# Altium footprint library Inductor_SMD.PcbLib: 37 footprints (part 1 of 3)
Each footprint in its own frame and in the unit in brackets; x right, y up, seen from the top. Pads: shape width x height; smd on the part's side, far side on the other; paste and mask are expansions set on the pad; w line width, h text height; cw(c..) or ccw(c..) is an arc to the next point about the centre after c.
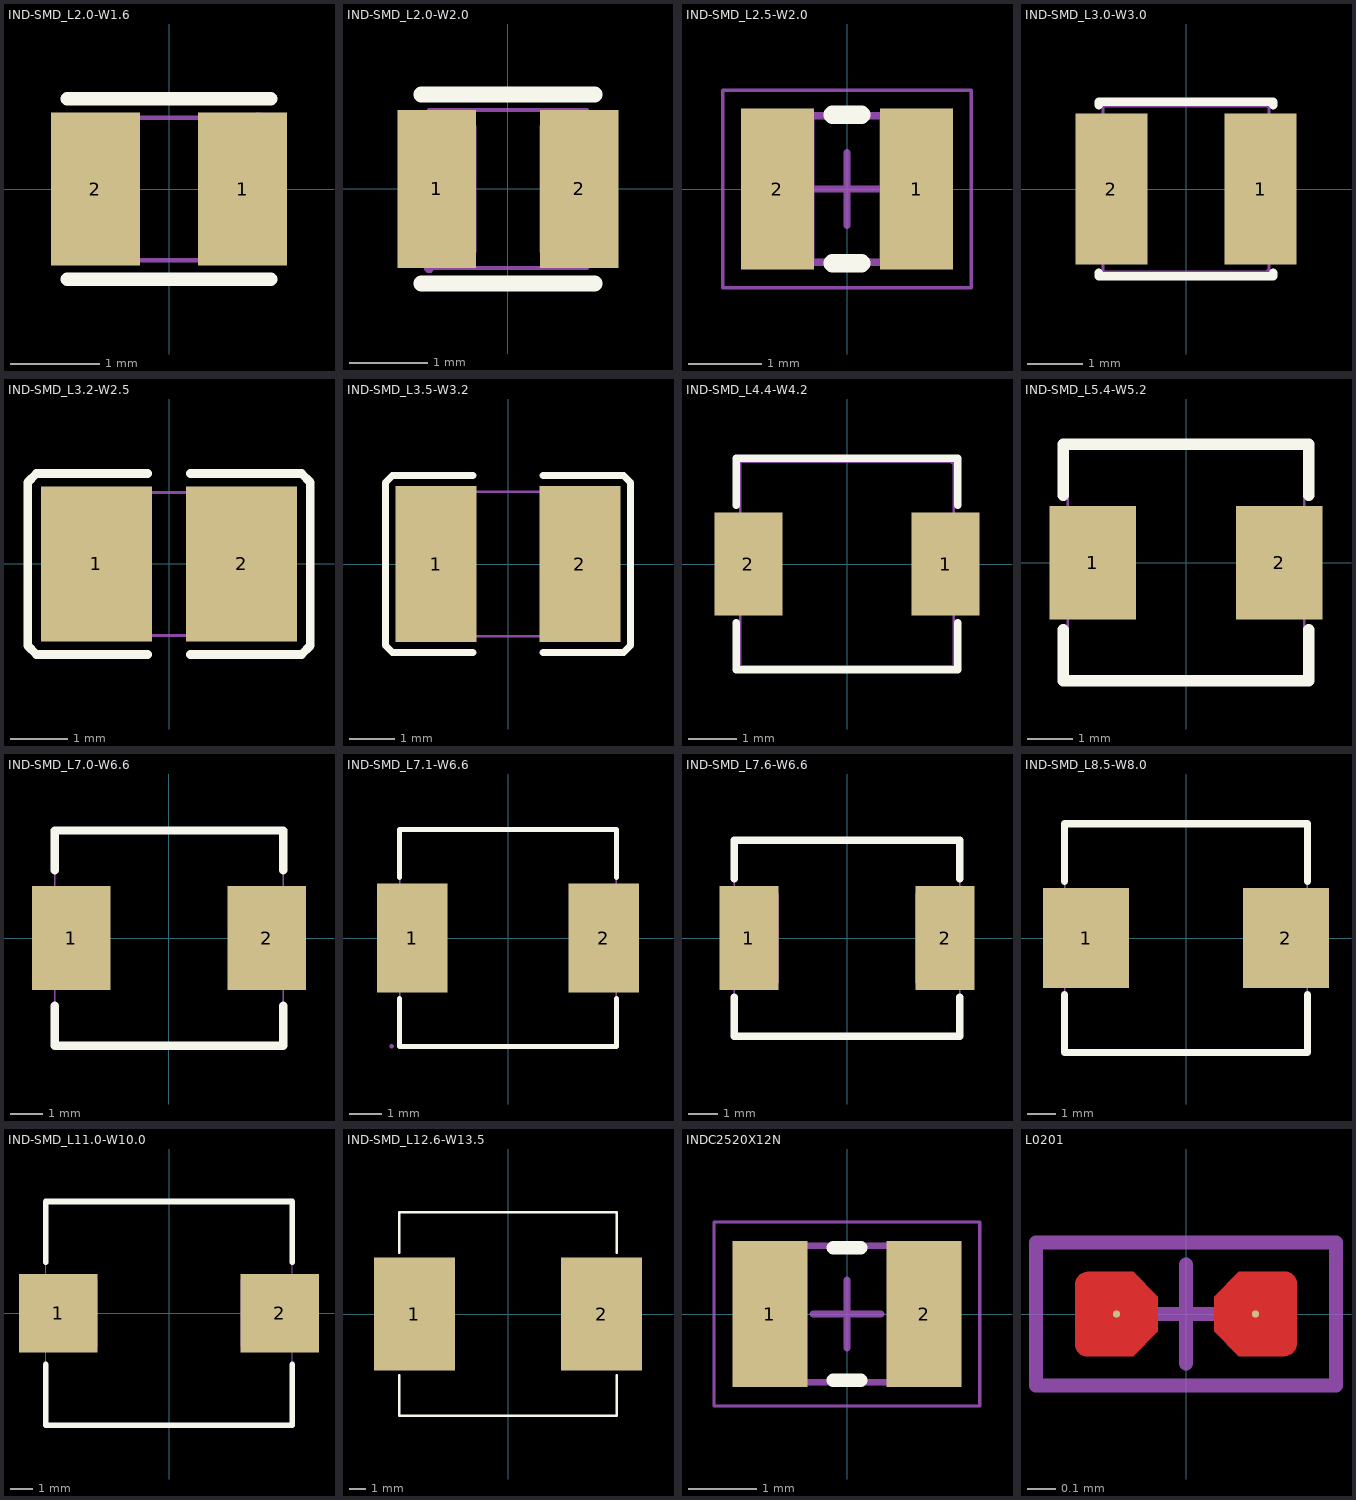
[diagram p0: the footprints below, top view; thin cyan lines are the x and y axes]

## IND-SMD_L2.0-W1.6 [mm]
pads (2):
  rect 1x1.72 smd paste+0 mask+0.051: 1(0.828,0) 2(-0.828,0)
Top Overlay:
  lines w0.152: -1.143,-1.016 1.143,-1.016 ; -1.143,1.016 1.143,1.016
Mechanical 15:
  region: -1,0.8 -0.4,0.8 -0.4,-0.8 -1,-0.8
  region: 0.4,0.8 1,0.8 1,-0.8 0.4,-0.8
  region: 1.06,0.8 1.06,0.825 1.025,0.86 0.975,0.86 0.94,0.825 0.94,0.8 0.94,0.775 0.975,0.74 1.025,0.74 1.06,0.775 1.06,0.8
  lines w0.051: -1,-0.8 1,-0.8 1,0.8 -1,0.8 -1,-0.8
3D body "L1.stp": height 1.12, standoff 0, extent -1.01,-0.8 1.01,0.8

## IND-SMD_L2.0-W2.0 [mm]
pads (2):
  rect 1.001x1.999 smd mask+0.051: 1(-0.904,0) 2(0.904,0)
Top Overlay:
  lines w0.201: -1.1,-1.199 1.1,-1.199 ; -1.1,1.199 1.1,1.199
Mechanical 15:
  region: -0.94,-1.001 -0.94,-0.976 -0.976,-0.94 -1.026,-0.94 -1.062,-0.976 -1.062,-1.001 -1.062,-1.026 -1.026,-1.062 -0.976,-1.062 -0.94,-1.026 -0.94,-1.001
  region: 0.401,0.8 1.001,0.8 1.001,-0.8 0.401,-0.8
  region: -1.001,0.8 -0.401,0.8 -0.401,-0.8 -1.001,-0.8
  lines w0.051: -1.001,-1.001 1.001,-1.001 1.001,1.001 -1.001,1.001 -1.001,-1.001
3D body: height 1, standoff 0, extent -1,-1 1,1

## IND-SMD_L2.5-W2.0 [mm]
pads (2):
  rect 1x2.2 smd: 1(0.95,0) 2(-0.95,0)
Top Overlay:
  lines w0.254: -0.197,-1.016 0.197,-1.016 ; -0.197,1.016 0.197,1.016
Mechanical 13:
  lines w0.1: -1.25,-1 -1.25,1 1.25,1 1.25,-1 -1.25,-1
Mechanical 15:
  region: -1.16,-0.97 -1.161,-0.946 -1.196,-0.912 -1.244,-0.912 -1.279,-0.946 -1.28,-0.97 -1.279,-0.994 -1.244,-1.028 -1.196,-1.028 -1.161,-0.994 -1.16,-0.97
  region: -1.25,1 -0.45,1 -0.45,-1 -1.25,-1
  region: 0.45,1 1.25,1 1.25,-1 0.45,-1
  lines w0.05: -1.7,-1.35 1.7,-1.35 1.7,1.35 -1.7,1.35 -1.7,-1.35
  lines w0.051: -1.25,-1 -1.25,1 1.25,1 1.25,-1 -1.25,-1
  lines w0.1: -0.5,0 0.5,0 ; 0,-0.5 0,0.5
3D body "INDC2520X12N.step": height 1.2, standoff 0, extent -1.25,-1 1.25,1

## IND-SMD_L3.0-W3.0 [mm]
pads (2):
  rect 1.3x2.72 smd: 1(1.35,0) 2(-1.35,0)
Top Overlay:
  lines w0.152: -1.576,-1.512 -1.576,-1.576 1.576,-1.576 1.576,-1.512 ; -1.576,1.512 -1.576,1.576 1.576,1.576 1.576,1.512
Mechanical 15:
  region: 1.56,-1.5 1.56,-1.476 1.525,-1.441 1.475,-1.441 1.44,-1.475 1.44,-1.5 1.44,-1.525 1.475,-1.559 1.524,-1.559 1.559,-1.525 1.56,-1.5
  region: 0.75,1.25 1.5,1.25 1.5,-1.25 0.75,-1.25
  region: -0.75,-1.25 -1.5,-1.25 -1.5,1.25 -0.75,1.25
  lines w0.051: -1.5,-1.5 -1.5,1.5 1.5,1.5 1.5,-1.5 -1.5,-1.5
3D body "User Library-nr3015.STEP": height 1.45, standoff -0.04, extent -1.5,-1.5 1.5,1.5

## IND-SMD_L3.2-W2.5 [mm]
pads (2):
  rect 1.935x2.7 smd: 1(-1.267,0) 2(1.267,0)
Top Overlay:
  lines w0.152: -0.376,-1.579 -2.311,-1.579 -2.464,-1.426 -2.464,1.426 -2.311,1.579 -0.376,1.579 ; 0.376,-1.579 2.311,-1.579 2.464,-1.426 2.464,1.426 2.311,1.579 0.376,1.579
Mechanical 15:
  region: 0.5,1.25 1.6,1.25 1.6,-1.25 0.5,-1.25
  region: -1.6,1.25 -0.5,1.25 -0.5,-1.25 -1.6,-1.25
  region: -1.54,-1.25 -1.54,-1.225 -1.575,-1.19 -1.625,-1.19 -1.66,-1.225 -1.66,-1.25 -1.66,-1.275 -1.625,-1.31 -1.575,-1.31 -1.54,-1.275 -1.54,-1.25
  lines w0.051: -1.6,-1.25 -1.6,1.25 1.6,1.25 1.6,-1.25 -1.6,-1.25
3D body "1.step": height 1.01, standoff 0, extent -1.61,-1.26 1.61,1.26

## IND-SMD_L3.5-W3.2 [mm]
pads (2):
  rect 1.785x3.456 smd: 1(-1.593,0) 2(1.593,0)
Top Overlay:
  lines w0.152: -0.776,-1.957 -2.561,-1.957 -2.714,-1.804 -2.714,1.804 -2.561,1.957 -0.776,1.957 ; 0.776,-1.957 2.561,-1.957 2.714,-1.804 2.714,1.804 2.561,1.957 0.776,1.957
Mechanical 15:
  region: -1.69,-1.6 -1.691,-1.576 -1.726,-1.543 -1.774,-1.543 -1.809,-1.576 -1.81,-1.6 -1.809,-1.624 -1.774,-1.657 -1.726,-1.657 -1.691,-1.624 -1.69,-1.6
  region: -1.75,-1.6 -1.05,-1.6 -1.05,1.6 -1.75,1.6
  region: 1.05,-1.6 1.75,-1.6 1.75,1.6 1.05,1.6
  lines w0.051: -1.75,-1.6 1.75,-1.6 1.75,1.6 -1.75,1.6 -1.75,-1.6
3D body: height 2, standoff 0, extent -1.75,-1.6 1.75,1.6

## IND-SMD_L4.4-W4.2 [mm]
pads (2):
  rect 1.4x2.12 smd: 1(2.028,0) 2(-2.028,0)
Top Overlay:
  lines w0.152: -2.276,-1.212 -2.276,-2.176 2.276,-2.176 2.276,-1.212 ; -2.276,1.212 -2.276,2.176 2.276,2.176 2.276,1.212
Mechanical 15:
  region: -2.2,1 -1.4,1 -1.4,-1 -2.2,-1
  region: 1.4,1 2.2,1 2.2,-1 1.4,-1
  region: 2.26,2.1 2.26,2.125 2.225,2.16 2.175,2.16 2.14,2.125 2.14,2.1 2.14,2.075 2.175,2.04 2.225,2.04 2.26,2.075 2.26,2.1
  lines w0.051: -2.2,-2.1 2.2,-2.1 2.2,2.1 -2.2,2.1 -2.2,-2.1
3D body "U1^3D_PCB1_2023-08-04(2)_3D_PCB1_2023-08-04.STEP": height 2.1, standoff 0, extent -2.2,-2.1 2.2,2.1

## IND-SMD_L5.4-W5.2 [mm]
pads (2):
  rect 1.9x2.5 smd: 1(-2.05,0) 2(2.05,0)
Top Overlay:
  lines w0.254: -2.7,-1.481 -2.7,-2.6 2.7,-2.6 2.7,-1.481 ; -2.7,1.481 -2.7,2.6 2.7,2.6 2.7,1.481
Mechanical 15:
  region: 2.7,-1.1 1.5,-1.1 1.5,1.1 2.7,1.1
  region: -2.7,1.1 -1.5,1.1 -1.5,-1.1 -2.7,-1.1
  region: -2.64,-2.6 -2.64,-2.575 -2.675,-2.54 -2.725,-2.54 -2.76,-2.575 -2.76,-2.6 -2.76,-2.625 -2.725,-2.66 -2.675,-2.66 -2.64,-2.625 -2.64,-2.6
  lines w0.051: -2.6,-2.6 -2.6,2.6 2.6,2.6 2.6,-2.6 -2.6,-2.6
3D body "IND-SMD_L5.4-W5.2_FXL0530.stp": height 2.81, standoff 0, extent -2.7,-2.6 2.7,2.6

## IND-SMD_L7.0-W6.6 [mm]
pads (2):
  rect 2.4x3.2 smd paste+0 mask+0.051: 1(-3,0) 2(3,0)
Top Overlay:
  lines w0.254: -3.5,-2.081 -3.5,-3.3 -3.49,-3.3 3.5,-3.3 3.5,-2.081 ; -3.5,2.081 -3.5,3.3 3.48,3.3 3.5,3.28 ; 3.5,2.081 3.5,3.3
Mechanical 15:
  region: -3.44,-3.3 -3.44,-3.275 -3.475,-3.24 -3.525,-3.24 -3.56,-3.275 -3.56,-3.3 -3.56,-3.325 -3.525,-3.36 -3.475,-3.36 -3.44,-3.325 -3.44,-3.3
  region: 1.9,1.5 3.5,1.5 3.5,-1.5 1.9,-1.5
  region: -1.9,-1.5 -3.5,-1.5 -3.5,1.5 -1.9,1.5
  lines w0.051: -3.5,-3.3 -3.5,3.3 3.5,3.3 3.5,-3.3 -3.5,-3.3
3D body "U1.stp": height 3.1, standoff 0, extent -3.5,-3.3 3.5,3.3

## IND-SMD_L7.1-W6.6 [mm]
pads (2):
  rect 2.15x3.32 smd mask+0.051: 1(-2.913,0) 2(2.913,0)
Top Overlay:
  lines w0.152: -3.302,-1.84 -3.302,-3.302 3.302,-3.302 3.302,-1.84 ; -3.302,1.84 -3.302,3.302 3.302,3.302 3.302,1.84
Mechanical 15:
  region: -3.49,-3.3 -3.49,-3.275 -3.525,-3.24 -3.575,-3.24 -3.61,-3.275 -3.61,-3.3 -3.61,-3.325 -3.575,-3.36 -3.525,-3.36 -3.49,-3.325 -3.49,-3.3
  region: -3.55,1.5 -1.95,1.5 -1.95,-1.5 -3.55,-1.5
  region: 1.95,1.5 3.55,1.5 3.55,-1.5 1.95,-1.5
  lines w0.051: -3.3,-3.3 3.3,-3.3 3.3,3.3 -3.3,3.3 -3.3,-3.3
3D body "L1.stp": height 3.1, standoff 0, extent -3.5,-3.35 3.5,3.35

## IND-SMD_L7.6-W6.6 [mm]
pads (2):
  rect 1.999x3.5 smd mask+0.051: 1(-3.299,0) 2(3.299,0)
Top Overlay:
  lines w0.254: -3.8,-1.999 -3.8,-3.299 3.8,-3.299 3.8,-1.999 ; -3.8,1.999 -3.8,3.299 3.8,3.299 3.8,1.999
Mechanical 15:
  region: 2.301,1.501 3.8,1.501 3.8,-1.501 2.301,-1.501
  region: -3.8,1.501 -2.301,1.501 -2.301,-1.501 -3.8,-1.501
  region: -3.739,-3.299 -3.739,-3.274 -3.775,-3.238 -3.825,-3.238 -3.861,-3.274 -3.861,-3.299 -3.861,-3.325 -3.825,-3.36 -3.775,-3.36 -3.739,-3.325 -3.739,-3.299
  lines w0.051: -3.8,-3.299 3.8,-3.299 3.8,3.299 -3.8,3.299 -3.8,-3.299
3D body "L1.stp": height 5.01, standoff 0, extent -3.799,-3.3 3.799,3.299

## IND-SMD_L8.5-W8.0 [mm]
pads (2):
  rect 3x3.5 smd: 1(-3.5,0) 2(3.5,0)
Top Overlay:
  lines w0.254: -4.25,-1.981 -4.25,-4 4.25,-4 4.25,-1.981 ; -4.25,1.981 -4.25,4 4.25,4 4.25,1.981
Mechanical 15:
  region: -4.25,1.5 -2.45,1.5 -2.45,-1.5 -4.25,-1.5
  region: 2.45,1.5 4.25,1.5 4.25,-1.5 2.45,-1.5
  region: -4.19,-4 -4.19,-4.025 -4.225,-4.06 -4.275,-4.06 -4.31,-4.025 -4.31,-4 -4.31,-3.975 -4.275,-3.94 -4.225,-3.94 -4.19,-3.975 -4.19,-4
  lines w0.051: -4.25,-4 4.25,-4 4.25,4 -4.25,4 -4.25,-4
3D body "未命名-EasyEDA PCB Model~nQ1nIND-SMD_L8.5-W8.0_PCC-M0854M~IND-SMD_L8.5-W8.0_PCC-M0854M~nQ1n003.step": height 4, standoff 0, extent -4.25,-4 4.25,4

## IND-SMD_L11.0-W10.0 [mm]
pads (2):
  rect 3.5x3.5 smd: 1(-4.95,0) 2(4.95,0)
Top Overlay:
  lines w0.254: -5.5,-2.281 -5.5,-5 5.5,-5 5.5,-2.281 ; -5.5,2.281 -5.5,5 5.5,5 5.5,2.281
Mechanical 15:
  region: 3.2,-1.5 3.2,1.5 5.5,1.5 5.5,-1.5
  region: -3.2,1.5 -3.2,-1.5 -5.5,-1.5 -5.5,1.5
  region: -5.44,-5 -5.441,-4.976 -5.476,-4.942 -5.524,-4.942 -5.559,-4.976 -5.56,-5 -5.559,-5.024 -5.524,-5.058 -5.476,-5.058 -5.441,-5.024 -5.44,-5
  lines w0.051: -5.5,-5 5.5,-5 5.5,5 -5.5,5 -5.5,-5
3D body "L1.stp": height 5.01, standoff 0, extent -5.75,-5 5.75,5

## IND-SMD_L12.6-W13.5 [mm]
pads (2):
  rect 5x7 smd: 1(-5.8,0) 2(5.8,0)
Top Overlay:
  lines w0.152: -6.75,-3.8 -6.75,-6.3 6.75,-6.3 6.75,-3.8 ; -6.75,3.8 -6.75,6.3 6.75,6.3 6.75,3.8
3D body "Unnamed-PCBModelIND-SMD_L12.6-W13.5.step": height 5.81, standoff 0, extent -6.725,-6.3 6.725,6.3

## INDC2520X12N [mm] "Chip Inductor, 2-Leads, Body 2.50x2.00mm, IPC Medium Density"
height 1.2
pads (2):
  rect 1.1x2.14 smd: 1(-1.13,0) 2(1.13,0)
Top Overlay:
  lines w0.2: -0.2,-0.97 0.2,-0.97 ; -0.2,0.97 0.2,0.97
Mechanical 13:
  lines w0.1: -1.25,-1 -1.25,1 1.25,1 1.25,-1 -1.25,-1
Mechanical 15:
  lines w0.05: -1.95,-1.35 -1.95,1.35 1.95,1.35 1.95,-1.35 -1.95,-1.35
  lines w0.1: -0.5,0 0.5,0 ; 0,-0.5 0,0.5
3D body "INDC2520X12N.step": height 1.2, standoff 0, extent -1.25,-1 1.25,1

## L0201 [mil] "L0201"
height 9.06
pads (2):
  round 1 smd paste-19.68 mask+0: 1(-9.73,0)
  round 1 smd paste+0 mask+0: 2(9.73,0)
Top Layer:
  region: -9.85,5.91 -13.85,5.91 -14.2,5.86 -14.81,5.53 -15.27,5.01 -15.52,4.35 -15.52,4 -15.52,-4.5 -15.47,-4.8 -15.17,-5.32 -14.71,-5.7 -14.15,-5.91 -13.85,-5.91 -9.85,-5.91 -7.4,-5.91 -3.94,-2.45 -3.94,2.45 -7.4,5.91
  region: 9.85,-5.91 13.85,-5.91 14.2,-5.86 14.81,-5.53 15.27,-5.01 15.52,-4.35 15.52,-4 15.52,4.5 15.47,4.8 15.17,5.32 14.71,5.7 14.15,5.91 13.85,5.91 9.85,5.91 7.4,5.91 3.94,2.45 3.94,-2.45 7.4,-5.91
Top Paste:
  region: -9.85,5.91 -13.85,5.91 -14.2,5.86 -14.81,5.53 -15.27,5.01 -15.52,4.35 -15.52,4 -15.52,-4.5 -15.47,-4.8 -15.17,-5.32 -14.71,-5.7 -14.15,-5.91 -13.85,-5.91 -9.85,-5.91 -7.4,-5.91 -3.94,-2.45 -3.94,2.45 -7.4,5.91
  region: 9.85,-5.91 13.85,-5.91 14.2,-5.86 14.81,-5.53 15.27,-5.01 15.52,-4.35 15.52,-4 15.52,4.5 15.47,4.8 15.17,5.32 14.71,5.7 14.15,5.91 13.85,5.91 9.85,5.91 7.4,5.91 3.94,2.45 3.94,-2.45 7.4,-5.91
  region: 9.85,-5.91 13.85,-5.91 14.2,-5.86 14.81,-5.53 15.27,-5.01 15.52,-4.35 15.52,-4 15.52,4.5 15.47,4.8 15.17,5.32 14.71,5.7 14.15,5.91 13.85,5.91 9.85,5.91 7.4,5.91 3.94,2.45 3.94,-2.45 7.4,-5.91
  region: -9.85,5.91 -13.85,5.91 -14.2,5.86 -14.81,5.53 -15.27,5.01 -15.52,4.35 -15.52,4 -15.52,-4.5 -15.47,-4.8 -15.17,-5.32 -14.71,-5.7 -14.15,-5.91 -13.85,-5.91 -9.85,-5.91 -7.4,-5.91 -3.94,-2.45 -3.94,2.45 -7.4,5.91
Top Solder:
  region: 9.85,-5.91 13.85,-5.91 14.2,-5.86 14.81,-5.53 15.27,-5.01 15.52,-4.35 15.52,-4 15.52,4.5 15.47,4.8 15.17,5.32 14.71,5.7 14.15,5.91 13.85,5.91 9.85,5.91 7.4,5.91 3.94,2.45 3.94,-2.45 7.4,-5.91
  region: 9.85,-5.91 13.85,-5.91 14.2,-5.86 14.81,-5.53 15.27,-5.01 15.52,-4.35 15.52,-4 15.52,4.5 15.47,4.8 15.17,5.32 14.71,5.7 14.15,5.91 13.85,5.91 9.85,5.91 7.4,5.91 3.94,2.45 3.94,-2.45 7.4,-5.91
  region: -9.85,5.91 -13.85,5.91 -14.2,5.86 -14.81,5.53 -15.27,5.01 -15.52,4.35 -15.52,4 -15.52,-4.5 -15.47,-4.8 -15.17,-5.32 -14.71,-5.7 -14.15,-5.91 -13.85,-5.91 -9.85,-5.91 -7.4,-5.91 -3.94,-2.45 -3.94,2.45 -7.4,5.91
  region: -9.85,5.91 -13.85,5.91 -14.2,5.86 -14.81,5.53 -15.27,5.01 -15.52,4.35 -15.52,4 -15.52,-4.5 -15.47,-4.8 -15.17,-5.32 -14.71,-5.7 -14.15,-5.91 -13.85,-5.91 -9.85,-5.91 -7.4,-5.91 -3.94,-2.45 -3.94,2.45 -7.4,5.91
Mechanical 15:
  lines w1.97: -21,-10 21,-10 21,10 -21,10 -21,-10
  lines w2: -6.89,0 6.89,0 ; 0,-6.89 0,6.89
3D body "RESC0603X02N.step": height 9.06, standoff 0, extent -11.81,-5.91 11.81,5.91